# EAGLE library part DRV11873 (library domonetic)
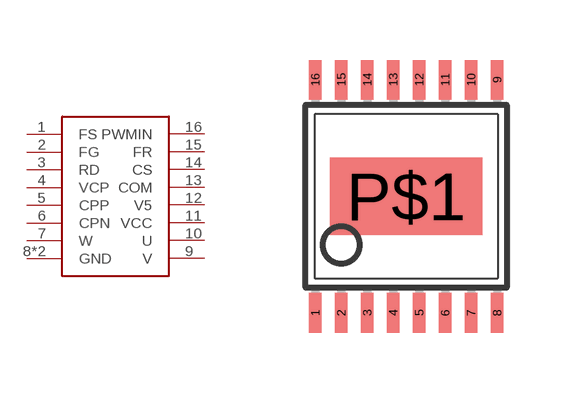
[diagram p13: symbol with the pads of TSSOP16; footprint TSSOP16]

Designator prefix -

## DRV11873HTSSOP16  [TSSOP16]
1  FS
2  FG
3  RD
4  VCP
5  CPP
6  CPN
7  W
8  GND
9  V
10  U
11  VCC
12  V5
13  COM
14  CS
15  FR
16  PWMIN
P$1  GND

## Footprint TSSOP16 (pad centres in mm)
Thin Shrink Small Outline Plastic 16 MAX3223-MAX3243.pdf
smd 0.305 x 0.991: 1 -2.275,-2.918; 2 -1.625,-2.918; 3 -0.975,-2.918; 4 -0.325,-2.918; 5 0.325,-2.918; 6 0.975,-2.918; 7 1.625,-2.918; 8 2.275,-2.918; 9 2.275,2.918; 10 1.625,2.918; 11 0.975,2.918; 12 0.325,2.918; 13 -0.325,2.918; 14 -0.975,2.918; 15 -1.625,2.918; 16 -2.275,2.918
smd 3.81 x 1.93: P$1 0,0